# Altium footprint library Connector_JST.PcbLib: 558 footprints (part 33 of 35)
Each footprint in its own frame and in the unit in brackets; x right, y up, seen from the top. Pads: shape width x height; smd on the part's side, far side on the other; paste and mask are expansions set on the pad; w line width, h text height; cw(c..) or ccw(c..) is an arc to the next point about the centre after c.
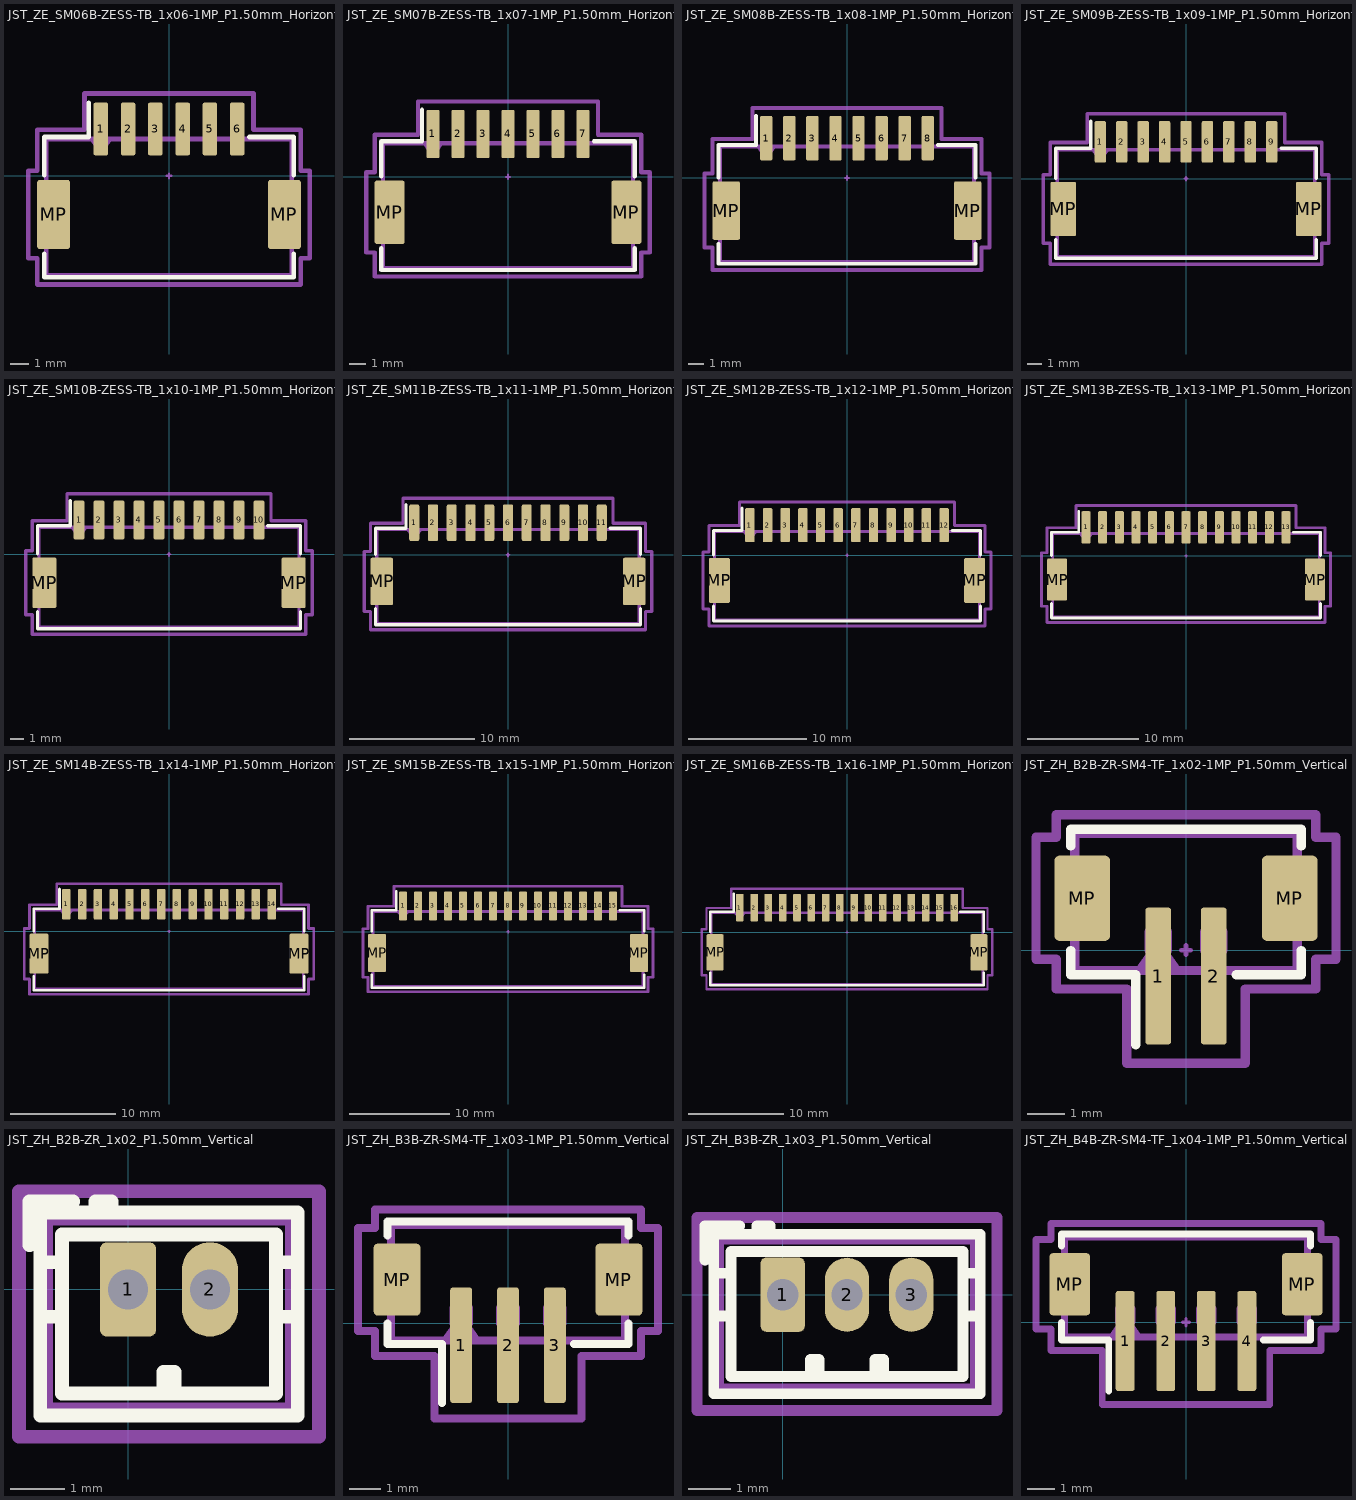
[diagram p32: the footprints below, top view; thin cyan lines are the x and y axes]

## JST_ZE_SM06B-ZESS-TB_1x06-1MP_P1.50mm_Horizontal [mm] "JST_ZE_SM06B-ZESS-TB_1x06-1MP_P1.50mm_Horizontal"
pads (8):
  rrect25% 0.8x2.9 smd: 1(-3.75,2.575) 2(-2.25,2.575) 3(-0.75,2.575) 4(0.75,2.575) 5(2.25,2.575) 6(3.75,2.575)
  rrect14% 1.8x3.8 smd: MP(-6.35,-2.125) MP(6.35,-2.125)
F.SilkS:
  lines w0.254: -6.86,-4.285 -6.86,-5.585 6.86,-5.585 6.86,-4.285 ; -6.86,0.035 -6.86,2.135 -4.41,2.135 -4.41,4.025 ; 4.41,2.135 6.86,2.135 6.86,0.035
Top Component Center:
  lines w0.127: -0.127,0 0.127,0 ; 0,-0.127 0,0.127
Top Assembly:
  lines w0.254: -4.25,2.025 -3.75,1.318 -3.25,2.025 ; -6.75,-5.475 6.75,-5.475 6.75,2.025 -6.75,2.025 -6.75,-5.475
Top Courtyard:
  lines w0.254: -7.75,-4.53 -7.25,-4.53 -7.25,-5.98 7.25,-5.98 7.25,-4.53 7.75,-4.53 7.75,0.28 7.25,0.28 7.25,2.53 4.65,2.53 4.65,4.53 -4.65,4.53 -4.65,2.53 -7.25,2.53 -7.25,0.28 -7.75,0.28 -7.75,-4.53
Top Designator:
  text ".Designator" at -3.43,-0.344 h1.52

## JST_ZE_SM07B-ZESS-TB_1x07-1MP_P1.50mm_Horizontal [mm] "JST_ZE_SM07B-ZESS-TB_1x07-1MP_P1.50mm_Horizontal"
pads (9):
  rrect25% 0.8x2.9 smd: 1(-4.5,2.575) 2(-3,2.575) 3(-1.5,2.575) 4(0,2.575) 5(1.5,2.575) 6(3,2.575) 7(4.5,2.575)
  rrect14% 1.8x3.8 smd: MP(-7.1,-2.125) MP(7.1,-2.125)
F.SilkS:
  lines w0.254: -7.61,-4.285 -7.61,-5.585 7.61,-5.585 7.61,-4.285 ; -7.61,0.035 -7.61,2.135 -5.16,2.135 -5.16,4.025 ; 5.16,2.135 7.61,2.135 7.61,0.035
Top Component Center:
  lines w0.127: -0.127,0 0.127,0 ; 0,-0.127 0,0.127
Top Assembly:
  lines w0.254: -5,2.025 -4.5,1.318 -4,2.025 ; -7.5,-5.475 7.5,-5.475 7.5,2.025 -7.5,2.025 -7.5,-5.475
Top Courtyard:
  lines w0.254: -8.5,-4.53 -8,-4.53 -8,-5.98 8,-5.98 8,-4.53 8.5,-4.53 8.5,0.28 8,0.28 8,2.53 5.4,2.53 5.4,4.53 -5.4,4.53 -5.4,2.53 -8,2.53 -8,0.28 -8.5,0.28 -8.5,-4.53
Top Designator:
  text ".Designator" at -3.43,-0.344 h1.52

## JST_ZE_SM08B-ZESS-TB_1x08-1MP_P1.50mm_Horizontal [mm] "JST_ZE_SM08B-ZESS-TB_1x08-1MP_P1.50mm_Horizontal"
pads (10):
  rrect25% 0.8x2.9 smd: 1(-5.25,2.575) 2(-3.75,2.575) 3(-2.25,2.575) 4(-0.75,2.575) 5(0.75,2.575) 6(2.25,2.575) 7(3.75,2.575) 8(5.25,2.575)
  rrect14% 1.8x3.8 smd: MP(-7.85,-2.125) MP(7.85,-2.125)
F.SilkS:
  lines w0.254: -8.36,-4.285 -8.36,-5.585 8.36,-5.585 8.36,-4.285 ; -8.36,0.035 -8.36,2.135 -5.91,2.135 -5.91,4.025 ; 5.91,2.135 8.36,2.135 8.36,0.035
Top Component Center:
  lines w0.127: -0.127,0 0.127,0 ; 0,-0.127 0,0.127
Top Assembly:
  lines w0.254: -5.75,2.025 -5.25,1.318 -4.75,2.025 ; -8.25,-5.475 -8.25,2.025 8.25,2.025 8.25,-5.475 -8.25,-5.475
Top Courtyard:
  lines w0.254: -9.25,-4.53 -9.25,0.28 -8.75,0.28 -8.75,2.53 -6.15,2.53 -6.15,4.53 6.15,4.53 6.15,2.53 8.75,2.53 8.75,0.28 9.25,0.28 9.25,-4.53 8.75,-4.53 8.75,-5.98 -8.75,-5.98 -8.75,-4.53 -9.25,-4.53
Top Designator:
  text ".Designator" at -3.43,-0.344 h1.52

## JST_ZE_SM09B-ZESS-TB_1x09-1MP_P1.50mm_Horizontal [mm] "JST_ZE_SM09B-ZESS-TB_1x09-1MP_P1.50mm_Horizontal"
pads (11):
  rrect25% 0.8x2.9 smd: 1(-6,2.575) 2(-4.5,2.575) 3(-3,2.575) 4(-1.5,2.575) 5(0,2.575) 6(1.5,2.575) 7(3,2.575) 8(4.5,2.575) 9(6,2.575)
  rrect14% 1.8x3.8 smd: MP(-8.6,-2.125) MP(8.6,-2.125)
F.SilkS:
  lines w0.254: -9.11,-4.285 -9.11,-5.585 9.11,-5.585 9.11,-4.285 ; -9.11,0.035 -9.11,2.135 -6.66,2.135 -6.66,4.025 ; 6.66,2.135 9.11,2.135 9.11,0.035
Top Component Center:
  lines w0.127: -0.127,0 0.127,0 ; 0,-0.127 0,0.127
Top Assembly:
  lines w0.254: -6.5,2.025 -6,1.318 -5.5,2.025 ; -9,-5.475 9,-5.475 9,2.025 -9,2.025 -9,-5.475
Top Courtyard:
  lines w0.254: -10,-4.53 -9.5,-4.53 -9.5,-5.98 9.5,-5.98 9.5,-4.53 10,-4.53 10,0.28 9.5,0.28 9.5,2.53 6.9,2.53 6.9,4.53 -6.9,4.53 -6.9,2.53 -9.5,2.53 -9.5,0.28 -10,0.28 -10,-4.53
Top Designator:
  text ".Designator" at -3.43,-0.344 h1.52

## JST_ZE_SM10B-ZESS-TB_1x10-1MP_P1.50mm_Horizontal [mm] "JST_ZE_SM10B-ZESS-TB_1x10-1MP_P1.50mm_Horizontal"
pads (12):
  rrect25% 0.8x2.9 smd: 1(-6.75,2.575) 2(-5.25,2.575) 3(-3.75,2.575) 4(-2.25,2.575) 5(-0.75,2.575) 6(0.75,2.575) 7(2.25,2.575) 8(3.75,2.575) 9(5.25,2.575) 10(6.75,2.575)
  rrect14% 1.8x3.8 smd: MP(-9.35,-2.125) MP(9.35,-2.125)
F.SilkS:
  lines w0.254: -9.86,-4.285 -9.86,-5.585 9.86,-5.585 9.86,-4.285 ; -9.86,0.035 -9.86,2.135 -7.41,2.135 -7.41,4.025 ; 7.41,2.135 9.86,2.135 9.86,0.035
Top Component Center:
  lines w0.127: -0.127,0 0.127,0 ; 0,-0.127 0,0.127
Top Assembly:
  lines w0.254: -7.25,2.025 -6.75,1.318 -6.25,2.025 ; -9.75,-5.475 -9.75,2.025 9.75,2.025 9.75,-5.475 -9.75,-5.475
Top Courtyard:
  lines w0.254: -10.75,-4.53 -10.75,0.28 -10.25,0.28 -10.25,2.53 -7.65,2.53 -7.65,4.53 7.65,4.53 7.65,2.53 10.25,2.53 10.25,0.28 10.75,0.28 10.75,-4.53 10.25,-4.53 10.25,-5.98 -10.25,-5.98 -10.25,-4.53 -10.75,-4.53
Top Designator:
  text ".Designator" at -3.43,-0.344 h1.52

## JST_ZE_SM11B-ZESS-TB_1x11-1MP_P1.50mm_Horizontal [mm] "JST_ZE_SM11B-ZESS-TB_1x11-1MP_P1.50mm_Horizontal"
pads (13):
  rrect25% 0.8x2.9 smd: 1(-7.5,2.575) 2(-6,2.575) 3(-4.5,2.575) 4(-3,2.575) 5(-1.5,2.575) 6(0,2.575) 7(1.5,2.575) 8(3,2.575) 9(4.5,2.575) 10(6,2.575) 11(7.5,2.575)
  rrect14% 1.8x3.8 smd: MP(-10.1,-2.125) MP(10.1,-2.125)
F.SilkS:
  lines w0.254: -10.61,-4.285 -10.61,-5.585 10.61,-5.585 10.61,-4.285 ; -10.61,0.035 -10.61,2.135 -8.16,2.135 -8.16,4.025 ; 8.16,2.135 10.61,2.135 10.61,0.035
Top Component Center:
  lines w0.127: -0.127,0 0.127,0 ; 0,-0.127 0,0.127
Top Assembly:
  lines w0.254: -8,2.025 -7.5,1.318 -7,2.025 ; -10.5,-5.475 -10.5,2.025 10.5,2.025 10.5,-5.475 -10.5,-5.475
Top Courtyard:
  lines w0.254: -11.5,-4.53 -11.5,0.28 -11,0.28 -11,2.53 -8.4,2.53 -8.4,4.53 8.4,4.53 8.4,2.53 11,2.53 11,0.28 11.5,0.28 11.5,-4.53 11,-4.53 11,-5.98 -11,-5.98 -11,-4.53 -11.5,-4.53
Top Designator:
  text ".Designator" at -3.43,-0.344 h1.52

## JST_ZE_SM12B-ZESS-TB_1x12-1MP_P1.50mm_Horizontal [mm] "JST_ZE_SM12B-ZESS-TB_1x12-1MP_P1.50mm_Horizontal"
pads (14):
  rrect25% 0.8x2.9 smd: 1(-8.25,2.575) 2(-6.75,2.575) 3(-5.25,2.575) 4(-3.75,2.575) 5(-2.25,2.575) 6(-0.75,2.575) 7(0.75,2.575) 8(2.25,2.575) 9(3.75,2.575) 10(5.25,2.575) 11(6.75,2.575) 12(8.25,2.575)
  rrect14% 1.8x3.8 smd: MP(-10.85,-2.125) MP(10.85,-2.125)
F.SilkS:
  lines w0.254: -11.36,-4.285 -11.36,-5.585 11.36,-5.585 11.36,-4.285 ; -11.36,0.035 -11.36,2.135 -8.91,2.135 -8.91,4.025 ; 8.91,2.135 11.36,2.135 11.36,0.035
Top Component Center:
  lines w0.127: -0.127,0 0.127,0 ; 0,-0.127 0,0.127
Top Assembly:
  lines w0.254: -8.75,2.025 -8.25,1.318 -7.75,2.025 ; -11.25,-5.475 11.25,-5.475 11.25,2.025 -11.25,2.025 -11.25,-5.475
Top Courtyard:
  lines w0.254: -12.25,-4.53 -11.75,-4.53 -11.75,-5.98 11.75,-5.98 11.75,-4.53 12.25,-4.53 12.25,0.28 11.75,0.28 11.75,2.53 9.15,2.53 9.15,4.53 -9.15,4.53 -9.15,2.53 -11.75,2.53 -11.75,0.28 -12.25,0.28 -12.25,-4.53
Top Designator:
  text ".Designator" at -3.43,-0.344 h1.52

## JST_ZE_SM13B-ZESS-TB_1x13-1MP_P1.50mm_Horizontal [mm] "JST_ZE_SM13B-ZESS-TB_1x13-1MP_P1.50mm_Horizontal"
pads (15):
  rrect25% 0.8x2.9 smd: 1(-9,2.575) 2(-7.5,2.575) 3(-6,2.575) 4(-4.5,2.575) 5(-3,2.575) 6(-1.5,2.575) 7(0,2.575) 8(1.5,2.575) 9(3,2.575) 10(4.5,2.575) 11(6,2.575) 12(7.5,2.575) 13(9,2.575)
  rrect14% 1.8x3.8 smd: MP(-11.6,-2.125) MP(11.6,-2.125)
F.SilkS:
  lines w0.254: -12.11,-4.285 -12.11,-5.585 12.11,-5.585 12.11,-4.285 ; -12.11,0.035 -12.11,2.135 -9.66,2.135 -9.66,4.025 ; 9.66,2.135 12.11,2.135 12.11,0.035
Top Component Center:
  lines w0.127: -0.127,0 0.127,0 ; 0,-0.127 0,0.127
Top Assembly:
  lines w0.254: -9.5,2.025 -9,1.318 -8.5,2.025 ; -12,-5.475 -12,2.025 12,2.025 12,-5.475 -12,-5.475
Top Courtyard:
  lines w0.254: -13,-4.53 -13,0.28 -12.5,0.28 -12.5,2.53 -9.9,2.53 -9.9,4.53 9.9,4.53 9.9,2.53 12.5,2.53 12.5,0.28 13,0.28 13,-4.53 12.5,-4.53 12.5,-5.98 -12.5,-5.98 -12.5,-4.53 -13,-4.53
Top Designator:
  text ".Designator" at -3.43,-0.344 h1.52

## JST_ZE_SM14B-ZESS-TB_1x14-1MP_P1.50mm_Horizontal [mm] "JST_ZE_SM14B-ZESS-TB_1x14-1MP_P1.50mm_Horizontal"
pads (16):
  rrect25% 0.8x2.9 smd: 1(-9.75,2.575) 2(-8.25,2.575) 3(-6.75,2.575) 4(-5.25,2.575) 5(-3.75,2.575) 6(-2.25,2.575) 7(-0.75,2.575) 8(0.75,2.575) 9(2.25,2.575) 10(3.75,2.575) 11(5.25,2.575) 12(6.75,2.575) 13(8.25,2.575) 14(9.75,2.575)
  rrect14% 1.8x3.8 smd: MP(-12.35,-2.125) MP(12.35,-2.125)
F.SilkS:
  lines w0.254: -12.86,-4.285 -12.86,-5.585 12.86,-5.585 12.86,-4.285 ; -12.86,0.035 -12.86,2.135 -10.41,2.135 -10.41,4.025 ; 10.41,2.135 12.86,2.135 12.86,0.035
Top Component Center:
  lines w0.127: -0.127,0 0.127,0 ; 0,-0.127 0,0.127
Top Assembly:
  lines w0.254: -10.25,2.025 -9.75,1.318 -9.25,2.025 ; -12.75,-5.475 -12.75,2.025 12.75,2.025 12.75,-5.475 -12.75,-5.475
Top Courtyard:
  lines w0.254: -13.75,-4.53 -13.75,0.28 -13.25,0.28 -13.25,2.53 -10.65,2.53 -10.65,4.53 10.65,4.53 10.65,2.53 13.25,2.53 13.25,0.28 13.75,0.28 13.75,-4.53 13.25,-4.53 13.25,-5.98 -13.25,-5.98 -13.25,-4.53 -13.75,-4.53
Top Designator:
  text ".Designator" at -3.43,-0.344 h1.52

## JST_ZE_SM15B-ZESS-TB_1x15-1MP_P1.50mm_Horizontal [mm] "JST_ZE_SM15B-ZESS-TB_1x15-1MP_P1.50mm_Horizontal"
pads (17):
  rrect25% 0.8x2.9 smd: 1(-10.5,2.575) 2(-9,2.575) 3(-7.5,2.575) 4(-6,2.575) 5(-4.5,2.575) 6(-3,2.575) 7(-1.5,2.575) 8(0,2.575) 9(1.5,2.575) 10(3,2.575) 11(4.5,2.575) 12(6,2.575) 13(7.5,2.575) 14(9,2.575) 15(10.5,2.575)
  rrect14% 1.8x3.8 smd: MP(-13.1,-2.125) MP(13.1,-2.125)
F.SilkS:
  lines w0.254: -13.61,-4.285 -13.61,-5.585 13.61,-5.585 13.61,-4.285 ; -13.61,0.035 -13.61,2.135 -11.16,2.135 -11.16,4.025 ; 11.16,2.135 13.61,2.135 13.61,0.035
Top Component Center:
  lines w0.127: -0.127,0 0.127,0 ; 0,-0.127 0,0.127
Top Assembly:
  lines w0.254: -11,2.025 -10.5,1.318 -10,2.025 ; -13.5,-5.475 13.5,-5.475 13.5,2.025 -13.5,2.025 -13.5,-5.475
Top Courtyard:
  lines w0.254: -14.5,-4.53 -14,-4.53 -14,-5.98 14,-5.98 14,-4.53 14.5,-4.53 14.5,0.28 14,0.28 14,2.53 11.4,2.53 11.4,4.53 -11.4,4.53 -11.4,2.53 -14,2.53 -14,0.28 -14.5,0.28 -14.5,-4.53
Top Designator:
  text ".Designator" at -3.43,-0.344 h1.52

## JST_ZE_SM16B-ZESS-TB_1x16-1MP_P1.50mm_Horizontal [mm] "JST_ZE_SM16B-ZESS-TB_1x16-1MP_P1.50mm_Horizontal"
pads (18):
  rrect25% 0.8x2.9 smd: 1(-11.25,2.575) 2(-9.75,2.575) 3(-8.25,2.575) 4(-6.75,2.575) 5(-5.25,2.575) 6(-3.75,2.575) 7(-2.25,2.575) 8(-0.75,2.575) 9(0.75,2.575) 10(2.25,2.575) 11(3.75,2.575) 12(5.25,2.575) 13(6.75,2.575) 14(8.25,2.575) 15(9.75,2.575) 16(11.25,2.575)
  rrect14% 1.8x3.8 smd: MP(-13.85,-2.125) MP(13.85,-2.125)
F.SilkS:
  lines w0.254: -14.36,-4.285 -14.36,-5.585 14.36,-5.585 14.36,-4.285 ; -14.36,0.035 -14.36,2.135 -11.91,2.135 -11.91,4.025 ; 11.91,2.135 14.36,2.135 14.36,0.035
Top Component Center:
  lines w0.127: -0.127,0 0.127,0 ; 0,-0.127 0,0.127
Top Assembly:
  lines w0.254: -11.75,2.025 -11.25,1.318 -10.75,2.025 ; -14.25,-5.475 14.25,-5.475 14.25,2.025 -14.25,2.025 -14.25,-5.475
Top Courtyard:
  lines w0.254: -15.25,-4.53 -14.75,-4.53 -14.75,-5.98 14.75,-5.98 14.75,-4.53 15.25,-4.53 15.25,0.28 14.75,0.28 14.75,2.53 12.15,2.53 12.15,4.53 -12.15,4.53 -12.15,2.53 -14.75,2.53 -14.75,0.28 -15.25,0.28 -15.25,-4.53
Top Designator:
  text ".Designator" at -3.43,-0.344 h1.52

## JST_ZH_B2B-ZR-SM4-TF_1x02-1MP_P1.50mm_Vertical [mm] "JST_ZH_B2B-ZR-SM4-TF_1x02-1MP_P1.50mm_Vertical"
pads (4):
  rrect25% 0.7x3.7 smd: 1(-0.75,-0.7) 2(0.75,-0.7)
  rrect17% 1.5x2.3 smd: MP(-2.8,1.4) MP(2.8,1.4)
F.SilkS:
  lines w0.254: -3.11,-0.01 -3.11,-0.66 -1.36,-0.66 -1.36,-2.55 ; -3.11,2.81 -3.11,3.26 3.11,3.26 3.11,2.81 ; 1.36,-0.66 3.11,-0.66 3.11,-0.01
Top Component Center:
  lines w0.127: -0.127,0 0.127,0 ; 0,-0.127 0,0.127
Top Assembly:
  lines w0.254: -1.25,-0.55 -0.75,0.157 -0.25,-0.55 ; -3,-0.55 3,-0.55 3,3.15 -3,3.15 -3,-0.55 ; -1,0 -0.5,0 -0.5,0.5 -1,0.5 -1,0 ; 0.5,0 1,0 1,0.5 0.5,0.5 0.5,0
Top Courtyard:
  lines w0.254: -4.05,-0.25 -3.5,-0.25 -3.5,-1.05 -1.6,-1.05 -1.6,-3.05 1.6,-3.05 1.6,-1.05 3.5,-1.05 3.5,-0.25 4.05,-0.25 4.05,3.05 3.5,3.05 3.5,3.65 -3.5,3.65 -3.5,3.05 -4.05,3.05 -4.05,-0.25
Top Designator:
  text ".Designator" at -3.303,2.069 h1.52

## JST_ZH_B2B-ZR_1x02_P1.50mm_Vertical [mm] "JST_ZH_B2B-ZR_1x02_P1.50mm_Vertical"
pads (2):
  rrect24% 1.03x1.73 hole 0.73: 1(0,0)
  rrect100% 1.03x1.73 hole 0.73: 2(1.5,0)
F.SilkS:
  lines w0.254: -1.81,0.81 -1.81,1.61 -1.01,1.61 ; -1.61,-0.5 -1.21,-0.5 ; -1.61,0.5 -1.21,0.5 ; -0.6,1.41 -0.6,1.61 -0.3,1.61 -0.3,1.41 ; -0.6,1.51 -0.3,1.51 ; 0.65,-1.91 0.65,-1.51 0.85,-1.51 0.85,-1.91 ; 0.75,-1.91 0.75,-1.51 ; 2.71,-0.5 3.11,-0.5 ; 2.71,0.5 3.11,0.5 ; -1.61,-2.31 3.11,-2.31 3.11,1.41 -1.61,1.41 -1.61,-2.31 ; -1.21,-1.91 2.71,-1.91 2.71,1.01 -1.21,1.01 -1.21,-1.91
Top Component Center:
  lines w0.127: -0.127,0 0.127,0 ; 0,-0.127 0,0.127
Top Assembly:
  lines w0.254: -1.81,0.81 -1.81,1.61 -1.01,1.61 ; -1.5,-2.2 3,-2.2 3,1.3 -1.5,1.3 -1.5,-2.2
Top Courtyard:
  lines w0.254: -2,-2.7 3.5,-2.7 3.5,1.8 -2,1.8 -2,-2.7
Top Designator:
  text ".Designator" at -2.795,-1.741 h1.52

## JST_ZH_B3B-ZR-SM4-TF_1x03-1MP_P1.50mm_Vertical [mm] "JST_ZH_B3B-ZR-SM4-TF_1x03-1MP_P1.50mm_Vertical"
pads (5):
  rrect25% 0.7x3.7 smd: 1(-1.5,-0.7) 2(0,-0.7) 3(1.5,-0.7)
  rrect17% 1.5x2.3 smd: MP(-3.55,1.4) MP(3.55,1.4)
F.SilkS:
  lines w0.254: -3.86,-0.01 -3.86,-0.66 -2.11,-0.66 -2.11,-2.55 ; -3.86,2.81 -3.86,3.26 3.86,3.26 3.86,2.81 ; 2.11,-0.66 3.86,-0.66 3.86,-0.01
Top Component Center:
  lines w0.127: -0.127,0 0.127,0 ; 0,-0.127 0,0.127
Top Assembly:
  lines w0.254: -2,-0.55 -1.5,0.157 -1,-0.55 ; -3.75,-0.55 -3.75,3.15 3.75,3.15 3.75,-0.55 -3.75,-0.55 ; -1.75,0 -1.75,0.5 -1.25,0.5 -1.25,0 -1.75,0 ; -0.25,0 -0.25,0.5 0.25,0.5 0.25,0 -0.25,0 ; 1.25,0 1.25,0.5 1.75,0.5 1.75,0 1.25,0
Top Courtyard:
  lines w0.254: -4.8,-0.25 -4.8,3.05 -4.25,3.05 -4.25,3.65 4.25,3.65 4.25,3.05 4.8,3.05 4.8,-0.25 4.25,-0.25 4.25,-1.05 2.35,-1.05 2.35,-3.05 -2.35,-3.05 -2.35,-1.05 -4.25,-1.05 -4.25,-0.25 -4.8,-0.25
Top Designator:
  text ".Designator" at -3.557,1.815 h1.52

## JST_ZH_B3B-ZR_1x03_P1.50mm_Vertical [mm] "JST_ZH_B3B-ZR_1x03_P1.50mm_Vertical"
pads (3):
  rrect24% 1.03x1.73 hole 0.73: 1(0,0)
  rrect100% 1.03x1.73 hole 0.73: 2(1.5,0) 3(3,0)
F.SilkS:
  lines w0.254: -1.81,0.81 -1.81,1.61 -1.01,1.61 ; -1.61,-0.5 -1.21,-0.5 ; -1.61,0.5 -1.21,0.5 ; -0.6,1.41 -0.6,1.61 -0.3,1.61 -0.3,1.41 ; -0.6,1.51 -0.3,1.51 ; 0.65,-1.91 0.65,-1.51 0.85,-1.51 0.85,-1.91 ; 0.75,-1.91 0.75,-1.51 ; 2.15,-1.91 2.15,-1.51 2.35,-1.51 2.35,-1.91 ; 2.25,-1.91 2.25,-1.51 ; 4.21,-0.5 4.61,-0.5 ; 4.21,0.5 4.61,0.5 ; -1.61,-2.31 4.61,-2.31 4.61,1.41 -1.61,1.41 -1.61,-2.31 ; -1.21,-1.91 4.21,-1.91 4.21,1.01 -1.21,1.01 -1.21,-1.91
Top Component Center:
  lines w0.127: -0.127,0 0.127,0 ; 0,-0.127 0,0.127
Top Assembly:
  lines w0.254: -1.81,0.81 -1.81,1.61 -1.01,1.61 ; -1.5,-2.2 4.5,-2.2 4.5,1.3 -1.5,1.3 -1.5,-2.2
Top Courtyard:
  lines w0.254: -2,-2.7 5,-2.7 5,1.8 -2,1.8 -2,-2.7
Top Designator:
  text ".Designator" at -2.033,-1.741 h1.52

## JST_ZH_B4B-ZR-SM4-TF_1x04-1MP_P1.50mm_Vertical [mm] "JST_ZH_B4B-ZR-SM4-TF_1x04-1MP_P1.50mm_Vertical"
pads (6):
  rrect25% 0.7x3.7 smd: 1(-2.25,-0.7) 2(-0.75,-0.7) 3(0.75,-0.7) 4(2.25,-0.7)
  rrect17% 1.5x2.3 smd: MP(-4.3,1.4) MP(4.3,1.4)
F.SilkS:
  lines w0.254: -4.61,-0.01 -4.61,-0.66 -2.86,-0.66 -2.86,-2.55 ; -4.61,2.81 -4.61,3.26 4.61,3.26 4.61,2.81 ; 2.86,-0.66 4.61,-0.66 4.61,-0.01
Top Component Center:
  lines w0.127: -0.127,0 0.127,0 ; 0,-0.127 0,0.127
Top Assembly:
  lines w0.254: -2.75,-0.55 -2.25,0.157 -1.75,-0.55 ; -4.5,-0.55 -4.5,3.15 4.5,3.15 4.5,-0.55 -4.5,-0.55 ; -2.5,0 -2.5,0.5 -2,0.5 -2,0 -2.5,0 ; -1,0 -1,0.5 -0.5,0.5 -0.5,0 -1,0 ; 0.5,0 0.5,0.5 1,0.5 1,0 0.5,0 ; 2,0 2,0.5 2.5,0.5 2.5,0 2,0
Top Courtyard:
  lines w0.254: -5.55,-0.25 -5.55,3.05 -5,3.05 -5,3.65 5,3.65 5,3.05 5.55,3.05 5.55,-0.25 5,-0.25 5,-1.05 3.1,-1.05 3.1,-3.05 -3.1,-3.05 -3.1,-1.05 -5,-1.05 -5,-0.25 -5.55,-0.25
Top Designator:
  text ".Designator" at -3.43,1.942 h1.52